# Altium footprint library EN11-HSB.PcbLib: 1 footprints
Each footprint in its own frame and in the unit in brackets; x right, y up, seen from the top. Pads: shape width x height; smd on the part's side, far side on the other; paste and mask are expansions set on the pad; w line width, h text height; cw(c..) or ccw(c..) is an arc to the next point about the centre after c.
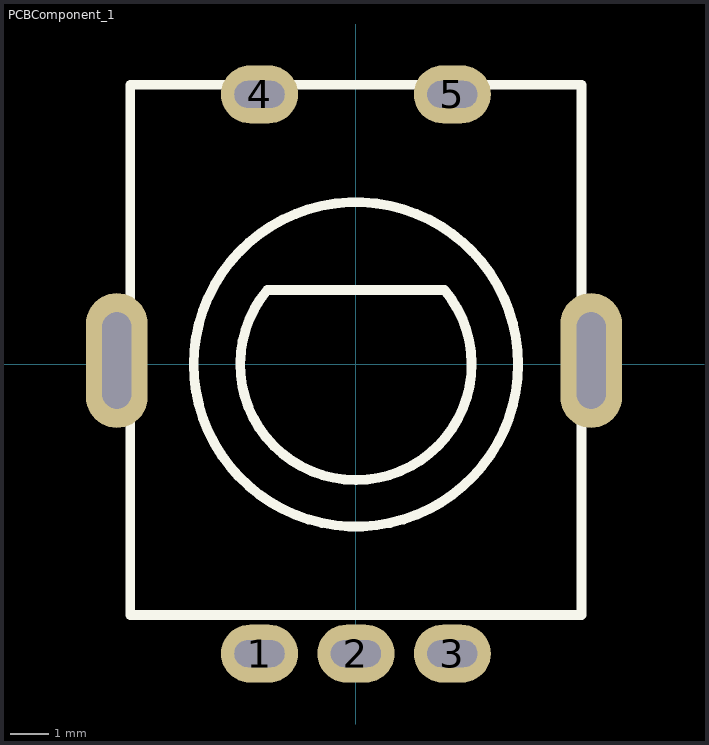
[diagram p0: the footprint, top view; thin cyan lines are the x and y axes]

## PCBComponent_1 [mm]
pads (7):
  oval 2x1.5 hole 1.3 slot 0.7 at 90 deg: 1(-2.5,-7.5) 2(0,-7.5) 3(2.5,-7.5) 4(-2.5,7) 5(2.5,7)
  oval 1.6x3.5 hole 2.5 slot 0.75 at 0 deg: ""(-6.2,0.1) ""(6.1,0.1)
Top Overlay:
  circle w0.254: c0,0 r4.205
  lines w0.254: -5.85,-6.5 -5.85,7.25 5.85,7.25 5.85,-6.5 -5.85,-6.5 ; -2.298,1.928 ccw(c0,0) 2.298,1.928 -2.298,1.928
3D body "EN11-HSB.stp": height 26.5, standoff -3.7, extent -6.924,-7.65 6.924,7.2